# Altium schematic symbol library SCH - POWER - MODULE - NXJ2-24V.SCHLIB: 1 symbol
Pins are listed as number, name and electrical type; pins without a type are passive.

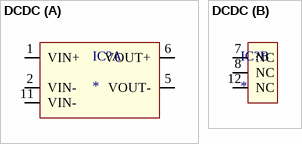
[diagram p0: symbol DCDC]

## DCDC
designator IC?
part A pins: 1 VIN+, 2 VIN-, 5 VOUT-, 6 VOUT+, 11 VIN-
part B pins: 7 NC, 8 NC, 12 NC